# EAGLE library part DIP04SB (library 1A-meinLib)
DIL/CODE SWITCH
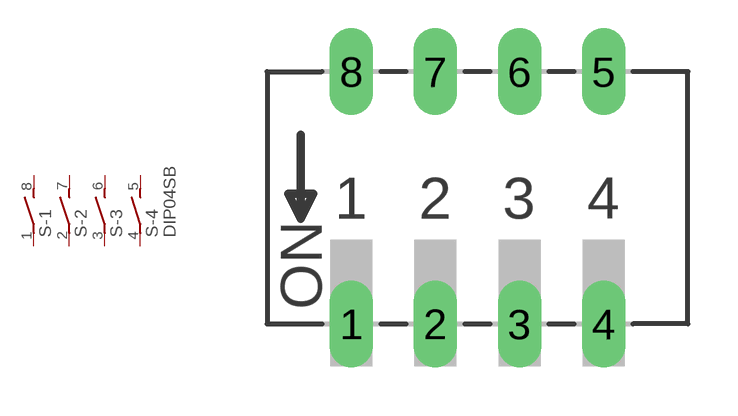
[diagram p241: symbol with the pads of DIP04SB; footprint DIP04SB]

Designator prefix S; gates -1=S -2=S -3=S -4=S+V

## DIP04SB  [DIP04SB]
1  -1:C  pas
2  -2:C  pas
3  -3:C  pas
4  -4:C  pas
5  -4:NO  pas
6  -3:NO  pas
7  -2:NO  pas
8  -1:NO  pas

## Footprint DIP04SB (pad centres in mm)
DIL/CODE SWITCH
drill 0.813 long: 1 -3.81,-3.81; 2 -1.27,-3.81; 3 1.27,-3.81; 4 3.81,-3.81; 5 3.81,3.81; 6 1.27,3.81; 7 -1.27,3.81; 8 -3.81,3.81